# EAGLE library part TI_TPS61073 (library AniBike_Common_Library)
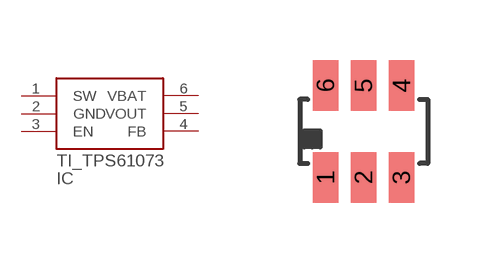
[diagram p10: symbol with the pads of DDC; footprint DDC]

Designator prefix IC

## TI_TPS61073DDC  [DDC]
1  SW
2  GND
3  EN
4  FB
5  VOUT
6  VBAT

## Footprint DDC (pad centres in mm)
smd 0.635 x 1.27: 1 -0.95,-1.15; 2 0,-1.15; 3 0.95,-1.15; 4 0.95,1.15; 5 0,1.15; 6 -0.95,1.15